# EAGLE library part BOXHD-06 (library omcConnector)
Box Header 2X3 Mechanical Terminals: 6 Rows: 2 Operating Temperature: -55°C...+105°C Electrical Imax: 3A RInsulation,min: 1000MΩ Rcontact,max: 20mΩ VAC: 550V
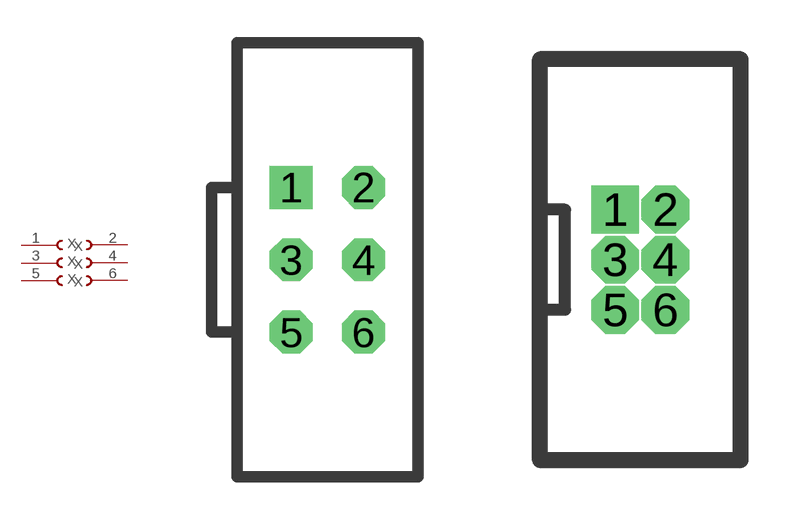
[diagram p0: symbol with the pads of BOXHD-06-2.54-S; footprints BOXHD-06-2.54-S, BOXHD-06-1.27-S]

Designator prefix X; gates 1=PHDL 3=PHDL 5=PHDL 2=PHDR 4=PHDR 6=PHDR

## BOXHD-06-S-2.54 (DIST#REICHELT#: WSL 6G; VALUE: 2X3)  [BOXHD-06-2.54-S]
1  1:P$1
2  2:P$1
3  3:P$1
4  4:P$1
5  5:P$1
6  6:P$1

## BOXHD-06-S-1.27 (ALTDIST#REICHELT#: SL 2X10G 1,27; VALUE: 2X3)  [BOXHD-06-1.27-S]
Pads as for BOXHD-06-2.54-S

## Footprint BOXHD-06-2.54-S (pad centres in mm)
Box Header 2X03 - Straight Technology: THT Pitch: 2.54mm Mechanical Reference (Reichelt) <http://cdn-reichelt.de/documents/datenblatt/C151/WSL_6G_DB.PDF>
drill 1 square: 1 -1.27,2.54
drill 1 octagon: 2 1.27,2.54; 3 -1.27,0; 4 1.27,0; 5 -1.27,-2.54; 6 1.27,-2.54

## Footprint BOXHD-06-1.27-S (pad centres in mm)
Box Header 2X03 - Straight Technology: THT Pitch: 1.27mm Mechanical Reference <http://www.metz-connect.com/de/products/310861>
drill 0.7 pad 1.016 square: 1 -0.635,1.27
drill 0.7 pad 1.016 octagon: 2 0.635,1.27; 3 -0.635,0; 4 0.635,0; 5 -0.635,-1.27; 6 0.635,-1.27